# EAGLE library part TP4056_MODULE (library MODULES)
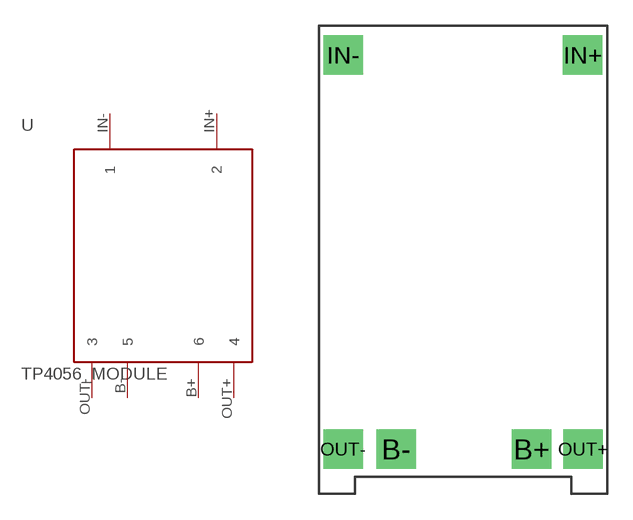
[diagram p0: symbol with the pads of TP4056; footprint TP4056]

Designator prefix -

## TP4056_MODULE  [TP4056]
B+  6
B-  5
IN+  2
IN-  1
OUT+  4
OUT-  3

## Footprint TP4056 (pad centres in mm)
drill 1 pad 2.3 square: B+ 4,-23; B- -3.9,-23; IN+ 6.97,0; IN- -7,0; OUT+ 7,-23; OUT- -7,-23